# Altium footprint library RJ_45_Connectors.PcbLib: 1 footprints
Each footprint in its own frame and in the unit in brackets; x right, y up, seen from the top. Pads: shape width x height; smd on the part's side, far side on the other; paste and mask are expansions set on the pad; w line width, h text height; cw(c..) or ccw(c..) is an arc to the next point about the centre after c.
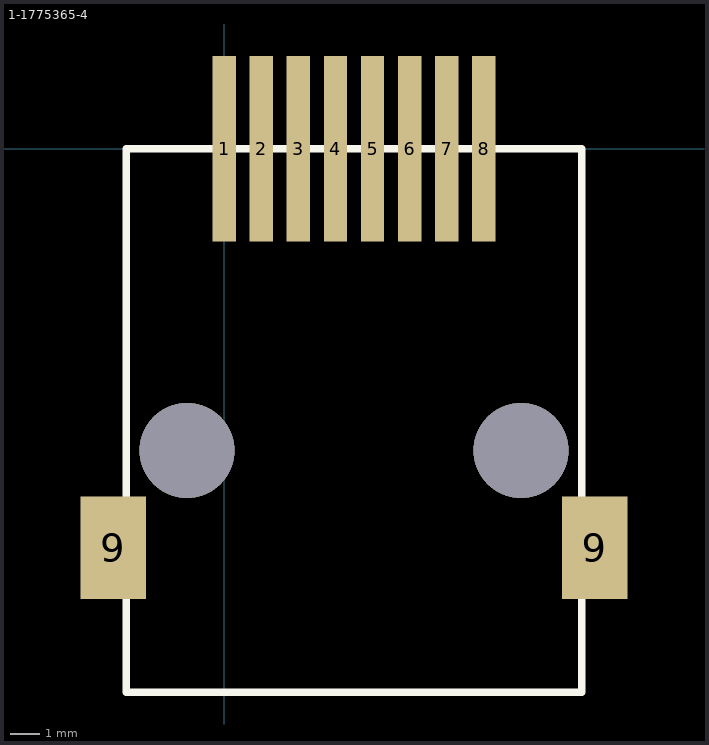
[diagram p0: the footprint, top view; thin cyan lines are the x and y axes]

## 1-1775365-4 [mm]
pads (10):
  rect 0.8x6.35 smd: 1(0,0) 2(1.27,0) 3(2.54,0) 4(3.81,0) 5(5.08,0) 6(6.35,0) 7(7.62,0) 8(8.89,0)
  rect 2.24x3.5 smd: 9(-3.79,-13.655) 9(12.68,-13.655)
via -1.27,-10.325 diameter 3.25 hole 3.25
via 10.16,-10.325 diameter 3.25 hole 3.25
Top Overlay:
  lines w0.254: -3.355,-18.6 12.245,-18.6 12.245,0 -3.355,0 -3.355,-18.6
3D body "1-1775365-4.stp": height 11.9, standoff -3.1, extent -4.638,-18.605 13.462,2.095